# Altium schematic symbol library CAP_10uF_0603.SchLib: 1 symbol
Pins are listed as number, name and electrical type; pins without a type are passive.

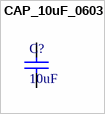
[diagram p0: symbol CAP_10uF_0603]

## CAP_10uF_0603
designator C?, comment 10uF
Yageo - CC0603MRX5R7BB106 - CAP, MLCC, X5R, 10uF, 16V, 0603; Dielectric Material: Ceramic; Tolerance: 20%; Manufacturer: Yageo; Manufacturer Part Number: CC0603MRX5R7BB106; RoHS: Yes; Category: Ceramic Capacitors; Stock 1: 109429; Pricing 1: 1=0.32000, 10=0.22000, 50=0.14680, 100=0.12470, 500=0.08804, 1000=0.07704 (USD); Mount: PCB,Surface Mount; Case/Package: 0603; Number of Pins: 2; Case Code (Imperial): 0603; Case Code (Metric): 1608; Min Operating Temperature: -55°C; Max Operating Temperature: 85°C; Capacitance: 10uF; Packaging: Tape and Reel; Dielectric: X5R; Voltage Rating: 16V; Voltage Rating (DC): 16V; Construction: Flat; Termination: SMD/SMT; Length: 1.6mm; Height: 0.8mm; Depth: 0.8mm; Radiation Hardening: No; RoHS Compliant: Yes; REACH SVHC: No SVHC; Supplier 1: DigiKey; Supplier Part Number 1: 311-1822-1-ND; Supplier 2: Mouser; Supplier Part Number 2: 603-CC603MRX5R7BB106
footprint Cap_0603_M (Yageo KEMET Maximum Density (Level A) Footprint, reference at pate centre. Datasheet: https://www.yageogroup.com/content/datasheet/asset/file/KEM_C1006_X5R_SMD)
footprint Cap_0603_N (Yageo KEMET Nominal Density Footprint using Nominal Land Protusion (Level B), reference at pate centre. Datasheet: https://www.yageogroup.com/content/datasheet/asset/file/KEM_C1006_X5R_SMD)
pins: 1, 2